# Altium schematic symbol library SLPX472M050E1P3.SchLib: 2 symbols
Pins are listed as number, name and electrical type; pins without a type are passive.

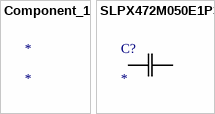
[diagram p0: symbols Component_1 to SLPX472M050E1P3]

## Component_1
designator *

## SLPX472M050E1P3
designator C?
No Description Available; Mfr_Name: Cornell Dubilier
footprint CAP_SLPX472M050E1P3_CND
pins: 1, 2